# Altium schematic symbol library SCH - CONNECTOR - RJ45 - WURTH 74984104401.SCHLIB: 1 symbol
Pins are listed as number, name and electrical type; pins without a type are passive.

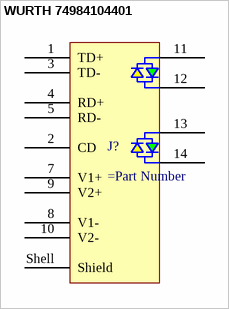
[diagram p0: symbol WURTH 74984104401]

## WURTH 74984104401
designator J?
pins: 1 TD+, 2 CD, 3 TD-, 4 RD+, 5 RD-, 7 V1+, 8 V1-, 9 V2+ (power), 10 V2- (power), 11, 12, 13, 14, Shell Shield